# EAGLE library part LM2678S-5.0 (library alim)
IC BUCK 5V 5A
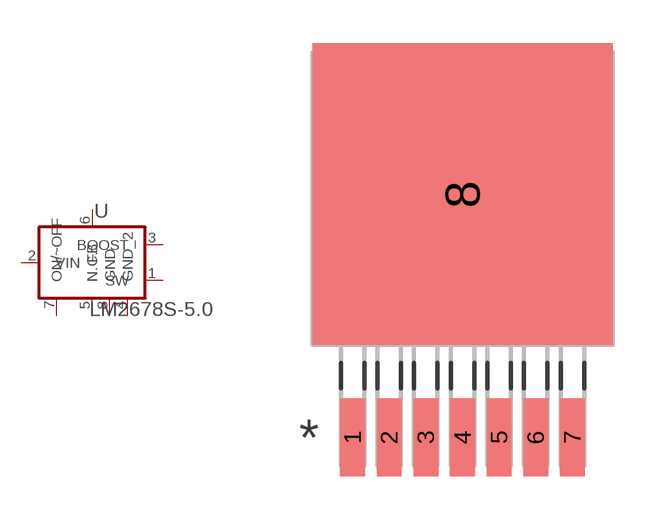
[diagram p0: symbol with the pads of TO127P1435X457-8N; footprint TO127P1435X457-8N]

Designator prefix U

## LM2678S-5.0 (MPN: LM2678S-5.0; OC_FARNELL: 1469215; OC_NEWARK: 41K4192; PACKAGE: TO-263-7; SUPPLIER: National Semiconductor)  [TO127P1435X457-8N]
1  SW  out
2  VIN  in
3  BOOST  pas
4  GND_2  pas
5  N.C.  pas
6  FB  pas
7  ON/~OFF  pas
8  GND  pas

## Footprint TO127P1435X457-8N (pad centres in mm)
smd 0.864 x 2.692: 1 -3.81,-8.28; 2 -2.54,-8.28; 3 -1.27,-8.28; 4 0,-8.28; 5 1.27,-8.28; 6 2.54,-8.28; 7 3.81,-8.28
smd 10.414 x 10.465: 8 0,0.152